# EAGLE library part AVR_SPI_PRG_6 (library Lab5)
AVR ISP 6 Pin This is the reduced ISP connector for AVR programming. Common on Arduino. This footprint will take up less PCB space and can be used with a 10-pin to 6-pin adapter such as SKU: BOB-08508
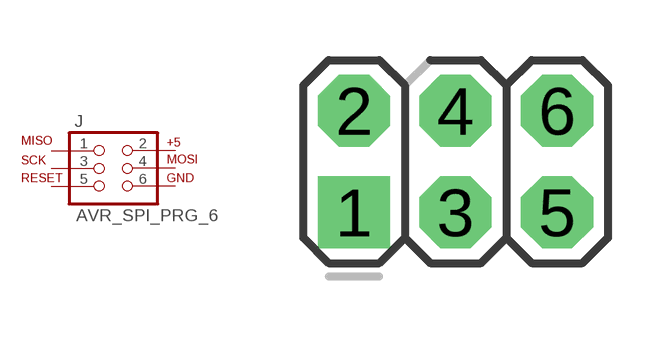
[diagram p1: symbol with the pads of 2X3-NS; footprint 2X3-NS]

Designator prefix J

## AVR_SPI_PRG_6NS  [2X3-NS]
1  1  pas
2  2  pas
3  3  pas
4  4  pas
5  5  pas
6  6  pas

## Footprint 2X3-NS (pad centres in mm)
drill 1.016 pad 1.803 square: 1 -2.54,-1.27
drill 1.016 pad 1.803 octagon: 2 -2.54,1.27; 3 0,-1.27; 4 0,1.27; 5 2.54,-1.27; 6 2.54,1.27